# Altium schematic symbol library Schlib1.SchLib: 1 symbol
Pins are listed as number, name and electrical type; pins without a type are passive.

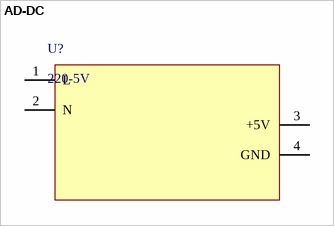
[diagram p0: symbol AD-DC]

## AD-DC
designator U?, comment 220-5V
pins: 1 L, 2 N, 3 +5V, 4 GND